# Altium schematic symbol library ics_other.SchLib: 31 symbols
Pins are listed as number, name and electrical type; pins without a type are passive.

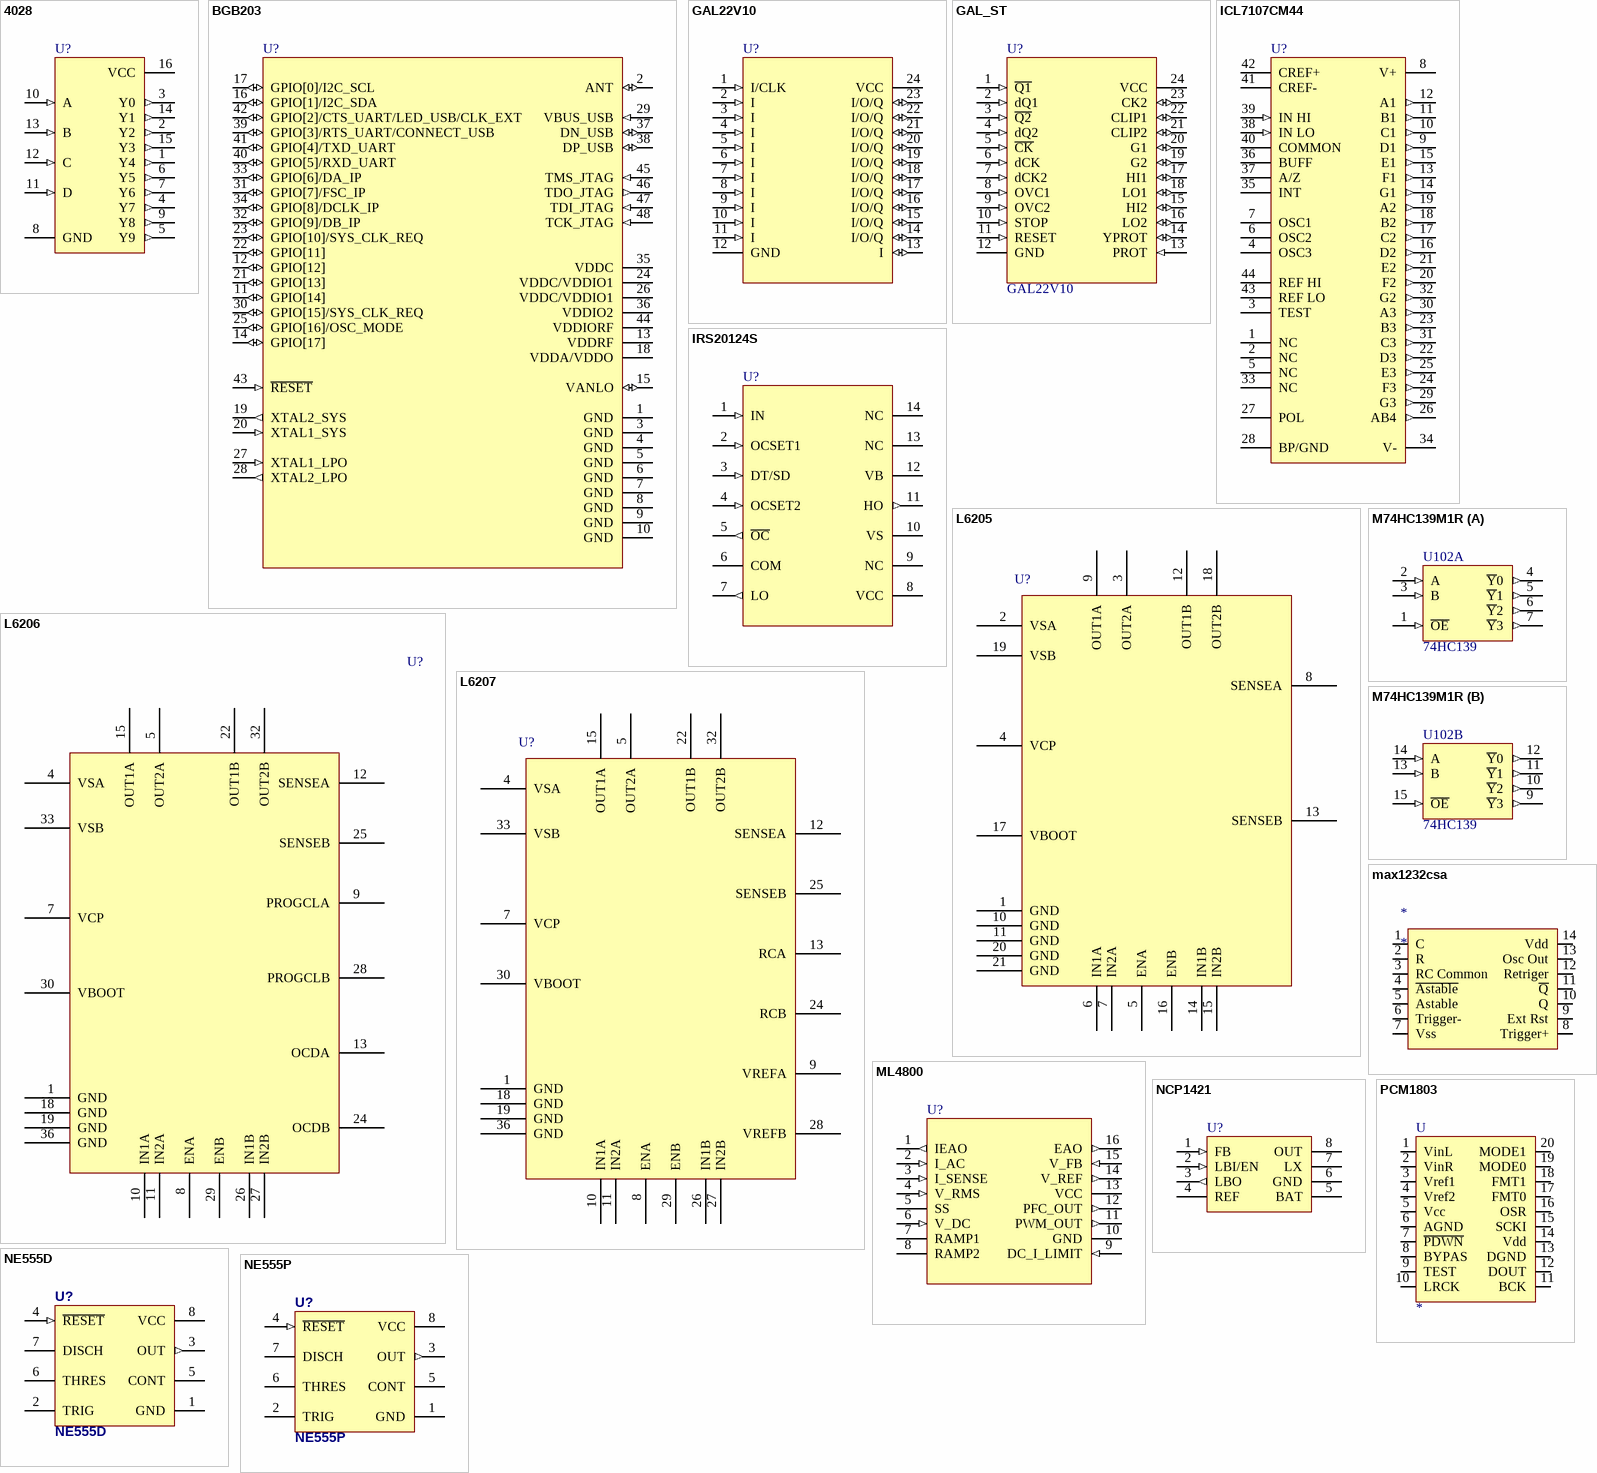
[diagram p0: symbols 4028 to PCM1803]

## 4028
designator U?
BCD-to-Decimal Decoder; Package Information: Latest Revision: Sep-1988; Published: 8-Jun-2000; Revision: 17-Jul-2002: Re-released for DXP Platform.; Datasheet: Latest Revision: Jun-1989; Package Reference: CDIP16; Publisher: Altium Limited
footprint DIP16_MANUAL
footprint DIP16
pins: 1 Y4 (out), 2 Y2 (out), 3 Y0 (out), 4 Y7 (out), 5 Y9 (out), 6 Y5 (out), 7 Y6 (out), 8 GND (power), 9 Y8 (out), 10 A (in), 11 D (in), 12 C (in), 13 B (in), 14 Y1 (out), 15 Y3 (out), 16 VCC (power)

## BGB203
designator U?
Bluetooth SiP radio with baseband controller; Published: 10-Aug-2006; PackageReference: QFN48
footprint QFN48 (QFN; 48 Leads; Body 7 x 8 mm; Pitch 0.5 mm)
pins: 1 GND (power), 2 ANT (io), 3 GND (power), 4 GND (power), 5 GND (power), 6 GND (power), 7 GND (power), 8 GND (power), 9 GND (power), 10 GND (power), 11 GPIO[14] (io), 12 GPIO[12] (io), 13 VDDRF (power), 14 GPIO[17] (io), 15 VANLO (io), 16 GPIO[1]/I2C_SDA (io), 17 GPIO[0]/I2C_SCL (io), 18 VDDA/VDDO (power), 19 XTAL2_SYS (out), 20 XTAL1_SYS (in), 21 GPIO[13] (io), 22 GPIO[11] (io), 23 GPIO[10]/SYS_CLK_REQ (io), 24 VDDC/VDDIO1 (power), 25 GPIO[16]/OSC_MODE (io), 26 VDDC/VDDIO1 (power), 27 XTAL1_LPO (in), 28 XTAL2_LPO (out), 29 VBUS_USB (in), 30 GPIO[15]/SYS_CLK_REQ (io), 31 GPIO[7]/FSC_IP (io), 32 GPIO[9]/DB_IP (io), 33 GPIO[6]/DA_IP (io), 34 GPIO[8]/DCLK_IP (io), 35 VDDC (power), 36 VDDIO2 (power), 37 DN_USB (io), 38 DP_USB (io), 39 GPIO[3]/RTS_UART/CONNECT_USB (io), 40 GPIO[5]/RXD_UART (io), 41 GPIO[4]/TXD_UART (io), 42 GPIO[2]/CTS_UART/LED_USB/CLK_EXT (io), 43 ~{RESET} (in), 44 VDDIORF (power), 45 TMS_JTAG (in), 46 TDO_JTAG (out), 47 TDI_JTAG (in), 48 TCK_JTAG (in)

## GAL22V10
designator U?
High Performance E2CMOS PLD  Generic Array Logic; Published: 06-Apr-2006
pins: 1 I/CLK (in), 2 I (in), 3 I (in), 4 I (in), 5 I (in), 6 I (in), 7 I (in), 8 I (in), 9 I (in), 10 I (in), 11 I (in), 12 GND (power), 13 I (io), 14 I/O/Q (io), 15 I/O/Q (io), 16 I/O/Q (io), 17 I/O/Q (io), 18 I/O/Q (io), 19 I/O/Q (io), 20 I/O/Q (io), 21 I/O/Q (io), 22 I/O/Q (io), 23 I/O/Q (io), 24 VCC (power)

## GAL_ST
designator U?, comment GAL22V10
GAL Stereo (D-Class Amplifier); Published: 06-Apr-2006
pins: 1 ~{Q1} (in), 2 dQ1 (in), 3 ~{Q2} (in), 4 dQ2 (in), 5 ~{CK} (in), 6 dCK (in), 7 dCK2 (in), 8 OVC1 (in), 9 OVC2 (in), 10 STOP (in), 11 RESET (in), 12 GND (power), 13 PROT (in), 14 YPROT (io), 15 HI2 (io), 16 LO2 (io), 17 HI1 (io), 18 LO1 (io), 19 G2 (io), 20 G1 (io), 21 CLIP2 (io), 22 CLIP1 (io), 23 CK2 (io), 24 VCC (power)

## ICL7107CM44
designator U?
3 1/2 Digit, LED Display, A/D Converter; Published: 17-Jul-2006; PackageReference: TQFP
footprint MQFP44 (QFP; 44 Leads; Body 10 x 10 mm; Pitch 0.8 mm)
pins: 1 NC, 2 NC, 3 TEST, 4 OSC3, 5 NC, 6 OSC2, 7 OSC1, 8 V+ (power), 9 D1 (out), 10 C1 (out), 11 B1 (out), 12 A1 (out), 13 F1 (out), 14 G1 (out), 15 E1 (out), 16 D2 (out), 17 C2 (out), 18 B2 (out), 19 A2 (out), 20 F2 (out), 21 E2 (out), 22 D3 (out), 23 B3 (out), 24 F3 (out), 25 E3 (out), 26 AB4 (out), 27 POL, 28 BP/GND (power), 29 G3 (out), 30 A3 (out), 31 C3 (out), 32 G2 (out), 33 NC, 34 V- (power), 35 INT, 36 BUFF, 37 A/Z, 38 IN LO (in), 39 IN HI (in), 40 COMMON, 41 CREF-, 42 CREF+, 43 REF LO, 44 REF HI

## IRS20124S
designator U?
Digital Audio Driver with Discrete Deadtime and Protection; Published: 19-Jan-2007; PackageReference: SOIC-14
footprint SO14 (Small Outline; 14 Leads; Body Width 3.9 mm; Pitch 1.27 mm)
pins: 1 IN (in) "Logic input for high-side and low-side gate driver outputs (HO and LO), in phase with HO", 2 OCSET1 (in) "Input for setting negative over current threshold", 3 DT/SD (in) "Input for programmable deadtime, referenced to COM. shutdown LO and HO when tied to COM", 4 OCSET2 (in) "Input for setting positive over current threshold", 5 ~{OC} (out) "Over-current output (negative logic)", 6 COM (power) "Low-side supply return", 7 LO (out) "Low-side output", 8 VCC (power) "Low-side logic supply voltage", 9 NC, 10 VS (power) "High-side floating supply return", 11 HO (out) "High-side output", 12 VB (power) "High-side floating supply", 13 NC, 14 NC

## L6205
designator U?  (value not drawn)
DMOS DUAL FULL BRIDGE DRIVER
footprint SOP127P1420X360_HS-20M (SOP, 20-Leads, Body 15,9x11,0mm (max), Pitch 1,27mm, IPC Low Density)
footprint POWERSO20-2layer
pins: 1 GND, 2 VSA, 3 OUT2A, 4 VCP, 5 ENA, 6 IN1A, 7 IN2A, 8 SENSEA, 9 OUT1A, 10 GND, 11 GND, 12 OUT1B, 13 SENSEB, 14 IN1B, 15 IN2B, 16 ENB, 17 VBOOT, 18 OUT2B, 19 VSB, 20 GND, 21 GND

## L6206
designator U?  (value not drawn)
DMOS DUAL FULL BRIDGE DRIVER
footprint SOP65P1570X360_HS-36N (SOP, 36-Leads, Body 15,9x14,2mm (max), Pitch 0,65mm, IPC Medium Density)
pins: 1 GND, 2 N.C. hidden, 3 N.C. hidden, 4 VSA, 5 OUT2A, 6 N.C. hidden, 7 VCP, 8 ENA, 9 PROGCLA, 10 IN1A, 11 IN2A, 12 SENSEA, 13 OCDA, 14 N.C. hidden, 15 OUT1A, 16 N.C. hidden, 17 N.C. hidden, 18 GND, 19 GND, 20 N.C. hidden, 21 N.C. hidden, 22 OUT1B, 23 N.C. hidden, 24 OCDB, 25 SENSEB, 26 IN1B, 27 IN2B, 28 PROGCLB, 29 ENB, 30 VBOOT, 31 N.C. hidden, 32 OUT2B, 33 VSB, 34 N.C. hidden, 35 N.C. hidden, 36 GND

## L6207
designator U?  (value not drawn)
DMOS DUAL FULL BRIDGE DRIVER WITH PWM CURRENT CONTROLLER
footprint SOP65P1570X360_HS-36N (SOP, 36-Leads, Body 15,9x14,2mm (max), Pitch 0,65mm, IPC Medium Density)
pins: 1 GND, 2 N.C. hidden, 3 N.C. hidden, 4 VSA, 5 OUT2A, 6 N.C. hidden, 7 VCP, 8 ENA, 9 VREFA, 10 IN1A, 11 IN2A, 12 SENSEA, 13 RCA, 14 N.C. hidden, 15 OUT1A, 16 N.C. hidden, 17 N.C. hidden, 18 GND, 19 GND, 20 N.C. hidden, 21 N.C. hidden, 22 OUT1B, 23 N.C. hidden, 24 RCB, 25 SENSEB, 26 IN1B, 27 IN2B, 28 VREFB, 29 ENB, 30 VBOOT, 31 N.C. hidden, 32 OUT2B, 33 VSB, 34 N.C. hidden, 35 N.C. hidden, 36 GND, 37 ThermalPad hidden to GND

## M74HC139M1R
designator U102, comment 74HC139
Dual 2-to-4 Decoder/Demultiplexer; Package Information: Latest Revision: Jan-1997; Published: 8-Jun-2000; Revision: 17-Jul-2002: Re-released for DXP Platform.; Datasheet: Latest Revision: Feb-1993; Package Reference: SO16; Publisher: Altium Limited
footprint SO16 (Small Outline; 16 Leads; Body Width 3.9 mm; Pitch 1.27 mm)
signal-integrity model M74HC139M1R
pins on every part: 8 GND (power) hidden to GND, 16 VCC (power) hidden to VCC
part A pins: 1 ~{OE} (in), 2 A (in), 3 B (in), 4 ~{Y}0 (out), 5 ~{Y}1 (out), 6 ~{Y}2 (out), 7 ~{Y}3 (out)
part B pins: 9 ~{Y}3 (out), 10 ~{Y}2 (out), 11 ~{Y}1 (out), 12 ~{Y}0 (out), 13 B (in), 14 A (in), 15 ~{OE} (in)

## max1232csa
designator *
footprint SO14
pins: 1 C, 2 R, 3 RC Common, 4 ~{Astable}, 5 Astable, 6 Trigger-, 7 Vss, 8 Trigger+, 9 Ext Rst, 10 Q, 11 ~{Q}, 12 Retriger, 13 Osc Out, 14 Vdd

## ML4800
designator U?
Power Factor Correction and PWM Controller  Combo; Published: 31-Mar-2006
footprint DIP16
pins: 1 IEAO (out), 2 I_AC (in), 3 I_SENSE (in), 4 V_RMS (in), 5 SS, 6 V_DC (in), 7 RAMP1, 8 RAMP2, 9 DC_I_LIMIT (in), 10 GND (power), 11 PWM_OUT (out), 12 PFC_OUT (out), 13 VCC (power), 14 V_REF (out), 15 V_FB (in), 16 EAO (out)

## NCP1421
designator U?
600 mA Sync-Rect PFM  Step-Up DC-DC Converter  with True-Cutoff and  Ring-Killer; Published: 08-Mar-2006; PackageReference: Micro8
footprint Micro8
pins: 1 FB (in), 2 LBI/EN (in), 3 LBO (out), 4 REF, 5 BAT (power), 6 GND (power), 7 LX, 8 OUT (power)

## NE555D
designator U?
Precision Timer; Supplier 1: TME; Supplier 2: Farnell; Supplier 3: Farnell; Supplier 4: Farnell; Supplier 5: Farnell; Supplier 6: Farnell; Supplier 7: Farnell; Supplier Part Number 1: NE555D; Supplier Part Number 2: 2454496; Supplier Part Number 3: 9589880; Supplier Part Number 4: 9488227; Supplier Part Number 5: 2464240; Supplier Part Number 6: 2334942; Supplier Part Number 7: 1737167
footprint SO8 (Small Outline; 8 Leads; Body Width 3.7 mm; Pitch 1.27 mm)
pins: 1 GND, 2 TRIG, 3 OUT (out), 4 ~{RESET} (in), 5 CONT, 6 THRES, 7 DISCH (oc), 8 VCC

## NE555P
designator U?
Precision Timer; Supplier 1: TME; Supplier 2: TME; Supplier 3: Farnell; Supplier 4: Farnell; Supplier 5: Farnell; Supplier Part Number 1: NE555P; Supplier Part Number 2: ICM7555IPAZ; Supplier Part Number 3: 2148597; Supplier Part Number 4: 9589899; Supplier Part Number 5: 2454497
footprint DIP8
pins: 1 GND, 2 TRIG, 3 OUT (out), 4 ~{RESET} (in), 5 CONT, 6 THRES, 7 DISCH (oc), 8 VCC

## PCM1803
designator U
footprint SSOP20
pins: 1 VinL, 2 VinR, 3 Vref1, 4 Vref2, 5 Vcc, 6 AGND, 7 ~{PDWN}, 8 BYPAS, 9 TEST, 10 LRCK, 11 BCK, 12 DOUT, 13 DGND, 14 Vdd, 15 SCKI, 16 OSR, 17 FMT0, 18 FMT1, 19 MODE0, 20 MODE1

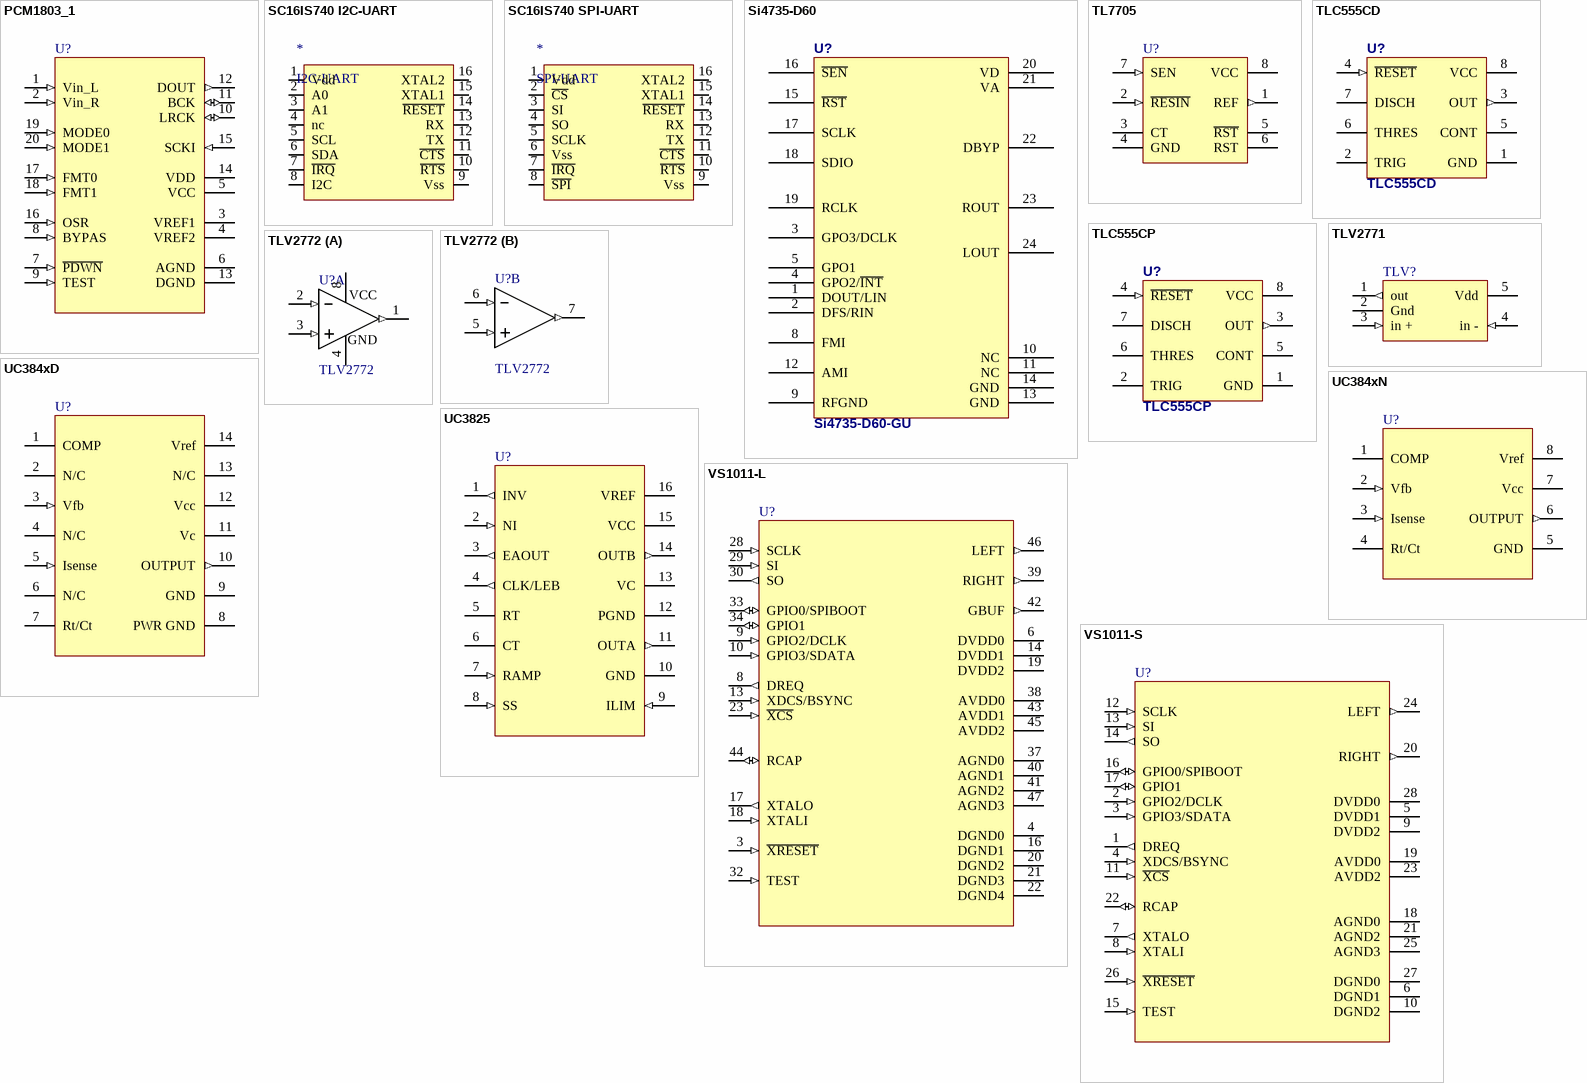
[diagram p1: symbols PCM1803_1 to VS1011-S]

## PCM1803_1
designator U?
SINGLE-ENDED, ANALOG-INPUT 24-BIT, 96-kHz STEREO A/D CONVERTER; Published: 08-May-2006
footprint SSOP20
pins: 1 Vin_L (in) "Analog input, L-channel", 2 Vin_R (in) "Analog input, R-channel", 3 VREF1 "Reference-voltage-1 decoupling capacitor", 4 VREF2 "Reference-voltage-2 decoupling capacitor", 5 VCC (power) "Analog power supply, 5 V", 6 AGND (power) "Analog Ground", 7 ~{PDWN} (in) "Power-down control, active-low", 8 BYPAS (in) "HPF bypass control. LOW: Normal mode (dc reject); HIGH: Bypass mode (through)", 9 TEST (in) "Test, must be connected to DGND", 10 LRCK (io) "Audio data latch enable input/output", 11 BCK (io) "Audio data bit clock input/output", 12 DOUT (out) "Audio data digital output", 13 DGND (power) "Digital ground", 14 VDD (power) "Digital power supply, 3.3 V", 15 SCKI (in) "System clock input: 256 Fs, 384 Fs, 512 Fs or 768 Fs", 16 OSR (in) "Oversampling ratio select input. LOW: x64 Fs, HIGH: x128 Fs", 17 FMT0 (in) "Audio data format select input 0", 18 FMT1 (in) "Audio data format select input 1", 19 MODE0 (in) "Mode select input 0", 20 MODE1 (in) "Mode select input 1"

## SC16IS740 I2C-UART
designator *, comment I2C-UART
SC16IS740 I2C-UART
footprint SSOP16
pins: 1 Vdd (power), 2 A0, 3 A1, 4 nc, 5 SCL, 6 SDA, 7 ~{IRQ}, 8 I2C, 9 Vss (power), 10 ~{RTS}, 11 ~{CTS}, 12 TX, 13 RX, 14 ~{RESET}, 15 XTAL1, 16 XTAL2

## SC16IS740 SPI-UART
designator *, comment SPI-UART
SC16IS740 SPI-UART
footprint SSOP16
pins: 1 Vdd (power), 2 ~{CS}, 3 SI, 4 SO, 5 SCLK, 6 Vss (power), 7 ~{IRQ}, 8 ~{SPI}, 9 Vss (power), 10 ~{RTS}, 11 ~{CTS}, 12 TX, 13 RX, 14 ~{RESET}, 15 XTAL1, 16 XTAL2

## Si4735-D60
designator U?, comment Si4735-D60-GU
BROADCAST AM/FM/SW/LW RADIO RECEIVER
footprint SSOP24
pins: 1 DOUT/LIN "Digital output data for digital output mode or Left channel input for AUX IN ADC mode.", 2 DFS/RIN "Digital frame synchronization input for digital output mode or Right channel input for AUXIN ADC mode.", 3 GPO3/DCLK "General purpose output, crystal oscillator, or digital bit synchronous clock input in digital output mode.", 4 GPO2/~{INT} "General purpose output or interrupt pin.", 5 GPO1 "General purpose output.", 6 NC hidden "No connect. Leave floating.", 7 NC hidden "No connect. Leave floating.", 8 FMI "FM RF inputs. FMI should be connected to the antenna trace.", 9 RFGND "RF ground. Connect to ground plane on PCB.", 10 NC "Unused. Tie these pins to GND.", 11 NC "Unused. Tie these pins to GND.", 12 AMI "AM/SW/LW RF input.", 13 GND "Ground. Connect to ground plane on PCB.", 14 GND "Ground. Connect to ground plane on PCB.", 15 ~{RST} "Device reset input (active low).", 16 ~{SEN} "Serial enable input (active low).", 17 SCLK "Serial clock input.", 18 SDIO "Serial data input/output", 19 RCLK "External reference oscillator input.", 20 VD "Digital and I/O supply voltage.", 21 VA "Analog supply voltage. May be connected directly to battery", 22 DBYP "Bypass capacitor.", 23 ROUT "Right audio line output in analog output mode.", 24 LOUT "Left audio line output in analog output mode."

## TL7705
designator U?
Supply Voltage Supervisor; Published: 19-Feb-2006
pins: 1 REF (out), 2 ~{RESIN} (in), 3 CT, 4 GND (power), 5 ~{RST} (oc), 6 RST (oc), 7 SEN (in), 8 VCC (power)

## TLC555CD
designator U?
Precision LinCMOS™ Timer; Supplier 1: TME; Supplier 2: Farnell; Supplier Part Number 1: TLC555CP; Supplier Part Number 2: 1103036
footprint SO8 (Small Outline; 8 Leads; Body Width 3.7 mm; Pitch 1.27 mm)
pins: 1 GND, 2 TRIG, 3 OUT (out), 4 ~{RESET} (in), 5 CONT, 6 THRES, 7 DISCH (oc), 8 VCC

## TLC555CP
designator U?
Precision LinCMOS™ Timer; Supplier 1: TME; Supplier 2: Farnell; Supplier Part Number 1: TLC555CP; Supplier Part Number 2: 1103036
footprint DIP8
pins: 1 GND, 2 TRIG, 3 OUT (out), 4 ~{RESET} (in), 5 CONT, 6 THRES, 7 DISCH (oc), 8 VCC

## TLV2771
designator TLV?  (value not drawn)
footprint SOT-23/5
pins: 1 out (out), 2 Gnd (power), 3 in + (in), 4 in - (in), 5 Vdd (power)

## TLV2772
designator U?
footprint MSOP8 (Footprint not found)
part A pins: 1 1 Out (out), 2 1in - (in), 3 1in+ (in), 4 GND (power), 8 V+ (power)
part B pins: 5 2in+ (in), 6 2in - (in), 7 2 Out (out)
part A text: VCC

## UC384xD
designator U?
Current Mode PWM Controller; Published: 18-Dec-2006; PackageReference: SOIC-14
footprint SO14 (Small Outline; 14 Leads; Body Width 3.9 mm; Pitch 1.27 mm)
pins: 1 COMP, 2 N/C, 3 Vfb (in), 4 N/C, 5 Isense (in), 6 N/C, 7 Rt/Ct, 8 PWR GND (power), 9 GND (power), 10 OUTPUT (out), 11 Vc (power), 12 Vcc (power), 13 N/C, 14 Vref

## UC384xN
designator U?
Current Mode PWM Controller; Published: 18-Dec-2006; PackageReference: DIP-8
footprint DIP8
pins: 1 COMP, 2 Vfb (in), 3 Isense (in), 4 Rt/Ct, 5 GND (power), 6 OUTPUT (out), 7 Vcc (power), 8 Vref

## UC3825
designator U?
Current Mode PWM Controller; Published: 01-May-2007; PackageReference: SOIC-16
pins: 1 INV (out), 2 NI (in), 3 EAOUT (out), 4 CLK/LEB (out), 5 RT, 6 CT, 7 RAMP (in), 8 SS (in), 9 ILIM (in), 10 GND (power), 11 OUTA (out), 12 PGND (power), 13 VC (power), 14 OUTB (out), 15 VCC (power), 16 VREF (power)

## VS1011-L
designator U?
MPEG Audio Codec; Published: 12-Sep-2006; PackageReference: LQFP48
footprint LQFP48 (QFP; 48 Leads; Body 7 x 7 mm; Pitch 0.5 mm)
pins: 3 ~{XRESET} (in) "active low asynchronous reset, schmitt-triggered", 4 DGND0 (power) "digital ground", 6 DVDD0 (power) "digital power supply", 8 DREQ (out) "data request, input bus", 9 GPIO2/DCLK (in) "general purpose IO 2 / serial input data bus clock", 10 GPIO3/SDATA (in) "general purpose IO 3 / serial data input", 13 XDCS/BSYNC (in) "data chip select / byte sync, connect to DVDD if not used", 14 DVDD1 (power) "digital power supply", 16 DGND1 (power) "digital ground", 17 XTALO (out) "crystal output", 18 XTALI (in) "crystal input", 19 DVDD2 (power) "digital power supply", 20 DGND2 (power) "digital ground", 21 DGND3 (power) "digital ground", 22 DGND4 (power) "digital ground", 23 ~{XCS} (in) "chip select input (active low)", 28 SCLK (in) "clock for serial bus", 29 SI (in) "serial input", 30 SO (out) "serial output, active when XCS=0, regardless of XRESET", 32 TEST (in) "reserved for test, connect to DVDD", 33 GPIO0/SPIBOOT (io) "general purpose IO 0 / use 100k pull-down resistor", 34 GPIO1 (io) "general purpose IO 1", 37 AGND0 (power) "analog ground, low-noise reference", 38 AVDD0 (power) "analog power supply", 39 RIGHT (out) "right channel output", 40 AGND1 (power) "analog ground", 41 AGND2 (power) "analog ground", 42 GBUF (out) "ground buffer", 43 AVDD1 (power) "analog power supply", 44 RCAP (io) "filtering capacitance for reference", 45 AVDD2 (power) "analog power supply", 46 LEFT (out) "left channel output", 47 AGND3 (power) "analog ground"

## VS1011-S
designator U?
MPEG Audio Codec; Published: 12-Sep-2006; PackageReference: SOIC-28
footprint SO28 (Small Outline; 28 Leads; Body Width 8.38 mm; Pitch 1.27 mm)
pins: 1 DREQ (out) "data request, input bus", 2 GPIO2/DCLK (in) "general purpose IO 2 / serial input data bus clock", 3 GPIO3/SDATA (in) "general purpose IO 3 / serial data input", 4 XDCS/BSYNC (in) "data chip select / byte sync, connect to DVDD if not used", 5 DVDD1 (power) "digital power supply", 6 DGND1 (power) "digital ground", 7 XTALO (out) "crystal output", 8 XTALI (in) "crystal input", 9 DVDD2 (power) "digital power supply", 10 DGND2 (power) "digital ground", 11 ~{XCS} (in) "chip select input (active low)", 12 SCLK (in) "clock for serial bus", 13 SI (in) "serial input", 14 SO (out) "serial output, active when XCS=0, regardless of XRESET", 15 TEST (in) "reserved for test, connect to DVDD", 16 GPIO0/SPIBOOT (io) "general purpose IO 0 / use 100k pull-down resistor", 17 GPIO1 (io) "general purpose IO 1", 18 AGND0 (power) "analog ground, low-noise reference", 19 AVDD0 (power) "analog power supply", 20 RIGHT (out) "right channel output", 21 AGND2 (power) "analog ground", 22 RCAP (io) "filtering capacitance for reference", 23 AVDD2 (power) "analog power supply", 24 LEFT (out) "left channel output", 25 AGND3 (power) "analog ground", 26 ~{XRESET} (in) "active low asynchronous reset, schmitt-triggered", 27 DGND0 (power) "digital ground", 28 DVDD0 (power) "digital power supply"

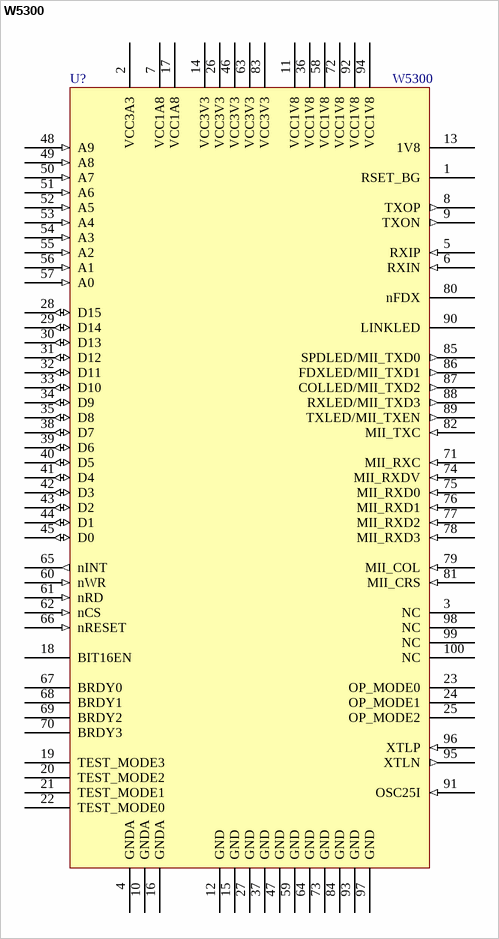
[diagram p2: symbol W5300]

## W5300
designator U?
W5300 (TCP/IP hardwired chip, Ethernet PHY)
footprint LQFP100 (Thin QFP, 100-Leads, Body 14x14mm, Pitch 0.5mm, IPC Medium Density)
pins: 1 RSET_BG, 2 VCC3A3 (power), 3 NC, 4 GNDA (power), 5 RXIP (in), 6 RXIN (in), 7 VCC1A8 (power), 8 TXOP (out), 9 TXON (out), 10 GNDA (power), 11 VCC1V8 (power), 12 GND (power), 13 1V8 (power), 14 VCC3V3 (power), 15 GND (power), 16 GNDA (power), 17 VCC1A8 (power), 18 BIT16EN, 19 TEST_MODE3, 20 TEST_MODE2, 21 TEST_MODE1, 22 TEST_MODE0, 23 OP_MODE0, 24 OP_MODE1, 25 OP_MODE2, 26 VCC3V3 (power), 27 GND (power), 28 D15 (io), 29 D14 (io), 30 D13 (io), 31 D12 (io), 32 D11 (io), 33 D10 (io), 34 D9 (io), 35 D8 (io), 36 VCC1V8 (power), 37 GND (power), 38 D7 (io), 39 D6 (io), 40 D5 (io), 41 D4 (io), 42 D3 (io), 43 D2 (io), 44 D1 (io), 45 D0 (io), 46 VCC3V3 (power), 47 GND (power), 48 A9 (in), 49 A8 (in), 50 A7 (in), 51 A6 (in), 52 A5 (in), 53 A4 (in), 54 A3 (in), 55 A2 (in), 56 A1 (in), 57 A0 (in), 58 VCC1V8 (power), 59 GND (power), 60 nWR (in), 61 nRD (in), 62 nCS (in), 63 VCC3V3 (power), 64 GND (power), 65 nINT (out), 66 nRESET (in), 67 BRDY0, 68 BRDY1, 69 BRDY2, 70 BRDY3, 71 MII_RXC (in), 72 VCC1V8 (power), 73 GND (power), 74 MII_RXDV (in), 75 MII_RXD0 (in), 76 MII_RXD1 (in), 77 MII_RXD2 (in), 78 MII_RXD3 (in), 79 MII_COL (in), 80 nFDX, 81 MII_CRS (in), 82 MII_TXC (in), 83 VCC3V3 (power), 84 GND (power), 85 SPDLED/MII_TXD0 (out), 86 FDXLED/MII_TXD1 (out), 87 COLLED/MII_TXD2 (out), 88 RXLED/MII_TXD3 (out), 89 TXLED/MII_TXEN (out), 90 LINKLED, 91 OSC25I (in), 92 VCC1V8 (power), 93 GND (power), 94 VCC1V8 (power), 95 XTLN (out), 96 XTLP (in), 97 GND (power), 98 NC, 99 NC, 100 NC